# EAGLE library part AXK7L70223G (library pimoroni-connectors)
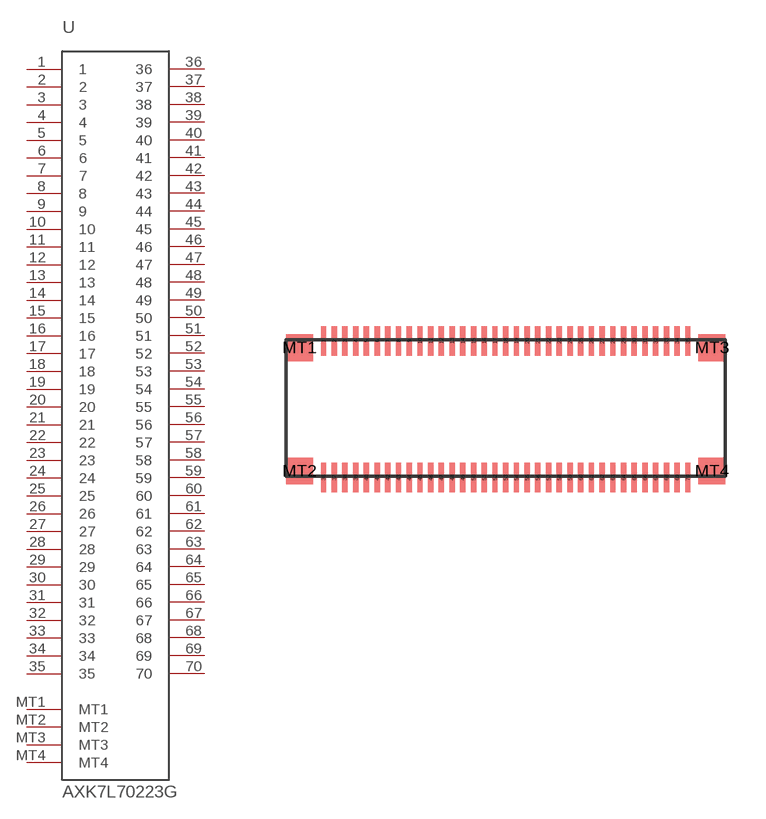
[diagram p9: symbol with the pads of AXK7L70223G; footprint AXK7L70223G]

Designator prefix -

## AXK7L70223G  [AXK7L70223G]
1  1
2  2
3  3
4  4
5  5
6  6
7  7
8  8
9  9
10  10
11  11
12  12
13  13
14  14
15  15
16  16
17  17
18  18
19  19
20  20
21  21
22  22
23  23
24  24
25  25
26  26
27  27
28  28
29  29
30  30
31  31
32  32
33  33
34  34
35  35
36  36
37  37
38  38
39  39
40  40
41  41
42  42
43  43
44  44
45  45
46  46
47  47
48  48
49  49
50  50
51  51
52  52
53  53
54  54
55  55
56  56
57  57
58  58
59  59
60  60
61  61
62  62
63  63
64  64
65  65
66  66
67  67
68  68
69  69
70  70
MT1  MT1
MT2  MT2
MT3  MT3
MT4  MT4

## Footprint AXK7L70223G (pad centres in mm)
smd 0.2 x 1.1: 1 -6.8,2.55; 2 -6.4,2.55; 3 -6,2.55; 4 -5.6,2.55; 5 -5.2,2.55; 6 -4.8,2.55; 7 -4.4,2.55; 8 -4,2.55; 9 -3.6,2.55; 10 -3.2,2.55; 11 -2.8,2.55; 12 -2.4,2.55; 13 -2,2.55; 14 -1.6,2.55; 15 -1.2,2.55; 16 -0.8,2.55; 17 -0.4,2.55; 18 0,2.55; 19 0.4,2.55; 20 0.8,2.55; 21 1.2,2.55; 22 1.6,2.55; 23 2,2.55; 24 2.4,2.55; 25 2.8,2.55; 26 3.2,2.55; 27 3.6,2.55; 28 4,2.55; 29 4.4,2.55; 30 4.8,2.55; 31 5.2,2.55; 32 5.6,2.55; 33 6,2.55; 34 6.4,2.55; 35 6.8,2.55; 36 -6.8,-2.55; 37 -6.4,-2.55; 38 -6,-2.55; 39 -5.6,-2.55; 40 -5.2,-2.55; 41 -4.8,-2.55; 42 -4.4,-2.55; 43 -4,-2.55; 44 -3.6,-2.55; 45 -3.2,-2.55; 46 -2.8,-2.55; 47 -2.4,-2.55; 48 -2,-2.55; 49 -1.6,-2.55; 50 -1.2,-2.55; 51 -0.8,-2.55; 52 -0.4,-2.55; 53 0,-2.55; 54 0.4,-2.55; 55 0.8,-2.55; 56 1.2,-2.55; 57 1.6,-2.55; 58 2,-2.55; 59 2.4,-2.55; 60 2.8,-2.55; 61 3.2,-2.55; 62 3.6,-2.55; 63 4,-2.55; 64 4.4,-2.55; 65 4.8,-2.55; 66 5.2,-2.55; 67 5.6,-2.55; 68 6,-2.55; 69 6.4,-2.55; 70 6.8,-2.55
smd 1 x 1: MT1 -7.7,2.3; MT2 -7.7,-2.3; MT3 7.7,2.3; MT4 7.7,-2.3